# EAGLE library part LM3404 (library newchips)
NS 1.0A Constant Current Buck Regulator for Driving High Power LEDs
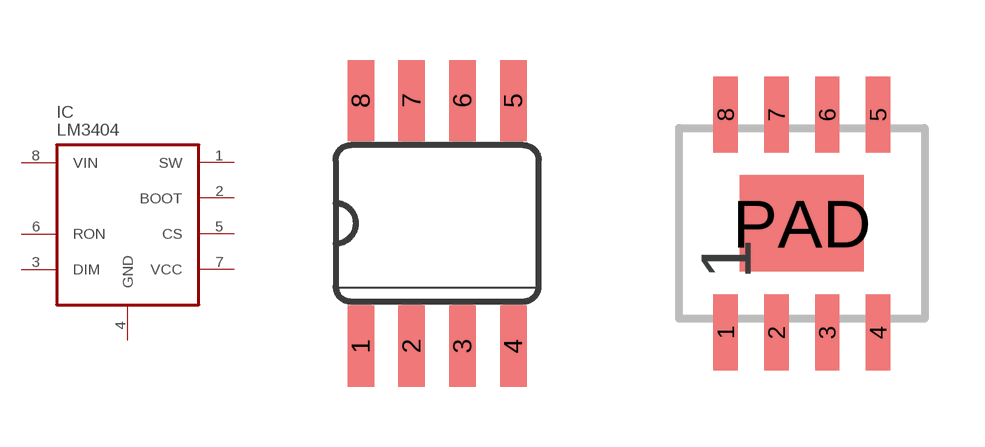
[diagram p21: symbol with the pads of SO08; footprints SO08, SOP08-PAD]

Designator prefix IC

## LM3404MA  [SO08]
1  SW  pas
2  BOOT  pas
3  DIM  in
4  GND  pwr
5  CS  pas
6  RON  pas
7  VCC  pwr
8  VIN  pwr

## LM3404MR  [SOP08-PAD]
Pads as for SO08

## Footprint SO08 (pad centres in mm)
smd 0.66 x 2.032: 1 -1.905,-3.073; 2 -0.635,-3.073; 3 0.635,-3.073; 4 1.905,-3.073; 5 1.905,3.073; 6 0.635,3.073; 7 -0.635,3.073; 8 -1.905,3.073

## Footprint SOP08-PAD (pad centres in mm)
smd 0.61 x 1.905: 1 -1.905,-2.727; 2 -0.635,-2.727; 3 0.635,-2.727; 4 1.905,-2.727; 5 1.905,2.727; 6 0.635,2.727; 7 -0.635,2.727; 8 -1.905,2.727
smd 3.099 x 2.413: PAD 0,0